# Altium schematic symbol library 5700100132F.SchLib: 1 symbol
Pins are listed as number, name and electrical type; pins without a type are passive.

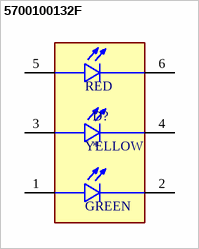
[diagram p0: symbol 5700100132F]

## 5700100132F
designator D?
Indicator,LED PCB Thru-Hole Bulb 2 mm Red/Yellow/Green Diffused, Tinted Round | Dialight 570-0100-132F; SnapEDA_Link: https://www.snapeda.com/parts/570-0100-132F/Dialight/view-part/?ref=snap; Package: D2PAK Dialight; Value: *; MF: Dialight; MP: 570-0100-132F; Check_prices: https://www.snapeda.com/parts/570-0100-132F/Dialight/view-part/?ref=eda
footprint LED_5700100132F
pins: 1 A_GREEN, 2 C_GREEN, 3 A_YELLOW, 4 C_YELLOW, 5 A_RED, 6 C_RED
text: RED; YELLOW; GREEN